# Altium schematic symbol library 218-8LPSTJ.SchLib: 1 symbol
Pins are listed as number, name and electrical type; pins without a type are passive.

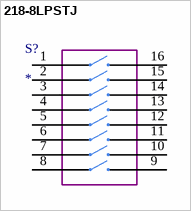
[diagram p0: symbol 218-8LPSTJ]

## 218-8LPSTJ
designator S?
Switch; Manufacturer_Name: CTS; Manufacturer_Part_Number: 218-8LPSTJ; Datasheet Link: https://www.ctscorp.com/wp-content/uploads/218.pdf; Height: 2.7mm; Mouser Part Number: 774-2188LPSTJ; Mouser Price/Stock: https://www.mouser.com/Search/Refine.aspx?Keyword=774-2188LPSTJ; Arrow Part Number: 218-8LPSTJ; Arrow Price/Stock: https://www.arrow.com/en/products/218-8lpstj/cts
footprint 2188LPSTJ
pins: 1, 2, 3, 4, 5, 6, 7, 8, 9, 10, 11, 12, 13, 14, 15, 16